# Altium footprint library SMD ceramic.PcbLib: 10 footprints
Each footprint in its own frame and in the unit in brackets; x right, y up, seen from the top. Pads: shape width x height; smd on the part's side, far side on the other; paste and mask are expansions set on the pad; w line width, h text height; cw(c..) or ccw(c..) is an arc to the next point about the centre after c.
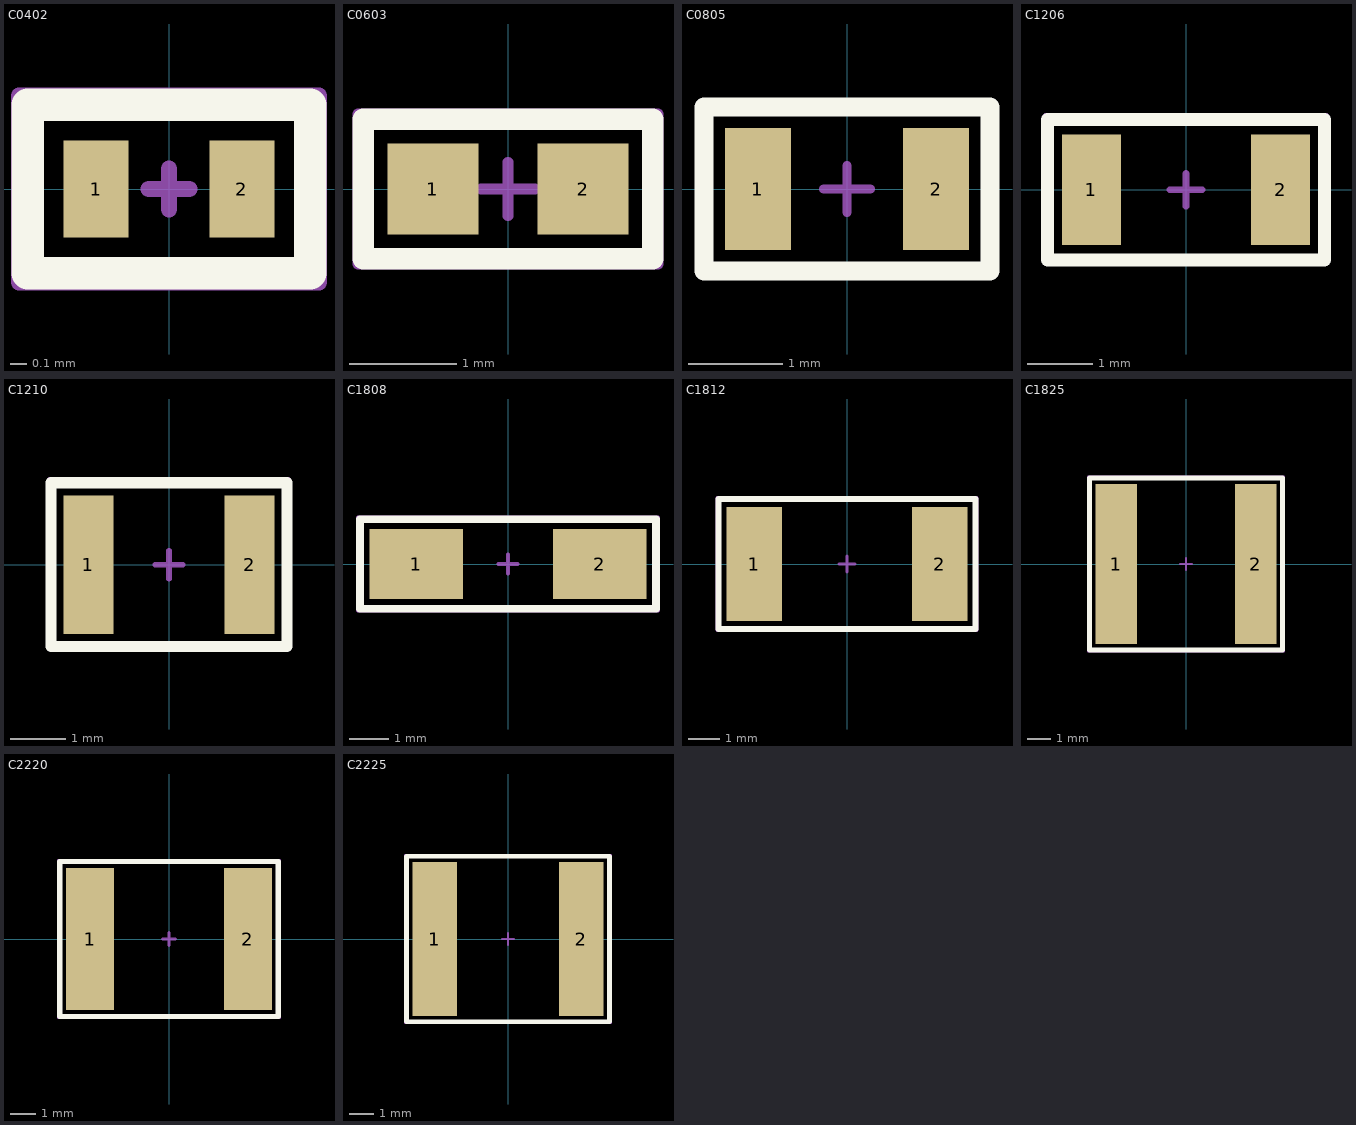
[diagram p0: the footprints below, top view; thin cyan lines are the x and y axes]

## C0402 [mm]
pads (2):
  rect 0.4x0.6 smd: 1(-0.45,0) 2(0.45,0)
Top Overlay:
  lines w0.2: -0.87,-0.52 -0.87,0.52 0.87,0.52 0.87,-0.52 -0.87,-0.52
Border:
  lines w0.1: -0.125,0 0.125,0 ; 0,-0.125 0,0.125 ; -0.925,-0.575 -0.925,0.575 0.925,0.575 0.925,-0.575 -0.925,-0.575
3D body "User Library-Capacitor 0402.STEP": height 0.49, standoff -0.01, extent -0.5,-0.25 0.5,0.25

## C0603 [mm]
pads (2):
  rect 0.85x0.85 smd: 1(-0.7,0) 2(0.7,0)
Top Overlay:
  lines w0.2: -1.35,-0.65 -1.35,0.65 1.35,0.65 1.35,-0.65 -1.35,-0.65
Border:
  lines w0.1: -0.25,0 0.25,0 ; 0,-0.25 0,0.25 ; -1.4,-0.7 1.4,-0.7 1.4,0.7 -1.4,0.7 -1.4,-0.7
3D body "User Library-SMD CAPACITOR.STEP": height 0.8, standoff 0, extent -0.8,-0.4 0.8,0.4

## C0805 [mm]
pads (2):
  rect 0.7x1.3 smd: 1(-0.95,0) 2(0.95,0)
Top Overlay:
  lines w0.2: -1.525,-0.875 -1.525,0.875 1.525,0.875 1.525,-0.875 -1.525,-0.875
Border:
  lines w0.1: -0.25,0 0.25,0 ; 0,-0.25 0,0.25 ; -1.55,-0.9 1.55,-0.9 1.55,0.9 -1.55,0.9 -1.55,-0.9
3D body "User Library-SMD CAPACITOR.STEP": height 0.6, standoff 0, extent -1,-0.625 1,0.625

## C1206 [mm]
pads (2):
  rect 0.9x1.7 smd: 1(-1.45,0) 2(1.45,0)
Top Overlay:
  lines w0.2: -2.125,-1.075 -2.125,1.075 2.125,1.075 2.125,-1.075 -2.125,-1.075
Border:
  lines w0.1: -0.25,0 0.25,0 ; 0,-0.25 0,0.25 ; -2.15,-1.1 2.15,-1.1 2.15,1.125 -2.15,1.125 -2.15,-1.1
3D body "User Library-SMD CAPACITOR.STEP": height 0.77, standoff -0.01, extent -1.6,-0.8 1.6,0.8

## C1210 [mm]
pads (2):
  rect 0.9x2.5 smd: 1(-1.45,0) 2(1.45,0)
Top Overlay:
  lines w0.2: -2.125,-1.475 2.125,-1.475 2.125,1.475 -2.125,1.475 -2.125,-1.475
Border:
  lines w0.1: -0.25,0 0.25,0 ; 0,-0.25 0,0.25 ; -2.15,-1.5 -2.15,1.525 2.15,1.525 2.15,-1.5 -2.15,-1.5
3D body "User Library-SMD CAPACITOR.STEP": height 0.77, standoff -0.01, extent -1.6,-1.25 1.6,1.25

## C1808 [mm]
pads (2):
  rect 2.4x1.8 smd: 1(-2.35,0) 2(2.35,0)
Top Overlay:
  lines w0.2: -3.8,-1.15 3.8,-1.15 3.8,1.15 -3.8,1.15 -3.8,-1.15
Border:
  lines w0.1: -0.25,0 0.25,0 ; 0,-0.25 0,0.25 ; -3.85,-1.2 -3.85,1.2 3.85,1.2 3.85,-1.2 -3.85,-1.2
3D body "User Library-SMD CAPACITOR.STEP": height 0.9, standoff 0, extent -2.25,-1 2.25,1

## C1812 [mm]
pads (2):
  rect 1.8x3.7 smd: 1(-3,0) 2(3,0)
Top Overlay:
  lines w0.2: -4.15,-2.1 4.15,-2.1 4.15,2.1 -4.15,2.1 -4.15,-2.1
Border:
  lines w0.1: -0.25,0 0.25,0 ; 0,-0.25 0,0.25 ; -4.2,-2.15 -4.2,2.15 4.2,2.15 4.2,-2.15 -4.2,-2.15
3D body "User Library-SMD CAPACITOR.STEP": height 1, standoff 0, extent -2.25,-1.6 2.25,1.6

## C1825 [mm]
pads (2):
  rect 1.8x6.9 smd: 1(-3,0) 2(3,0)
Top Overlay:
  lines w0.2: -4.15,-3.7 -4.15,3.7 4.15,3.7 4.15,-3.7 -4.15,-3.7
Border:
  lines w0.1: -0.25,0 0.25,0 ; 0,-0.25 0,0.25 ; -4.2,-3.75 4.2,-3.75 4.2,3.75 -4.2,3.75 -4.2,-3.75
3D body "User Library-SMD CAPACITOR.STEP": height 1.14, standoff -0.01, extent -2.25,-3.2 2.25,3.2

## C2220 [mm]
pads (2):
  rect 1.85x5.5 smd: 1(-3.05,0) 2(3.05,0)
Top Overlay:
  lines w0.2: -4.225,-3 -4.225,3 4.225,3 4.225,-3 -4.225,-3
Border:
  lines w0.1: -0.25,0 0.25,0 ; 0,-0.25 0,0.25 ; -4.275,-3.05 4.275,-3.05 4.275,3.05 -4.275,3.05 -4.275,-3.05
3D body "User Library-SMD CAPACITOR.STEP": height 1, standoff 0, extent -2.8,-2.5 2.8,2.5

## C2225 [mm]
pads (2):
  rect 1.85x6.4 smd: 1(-3.05,0) 2(3.05,0)
Top Overlay:
  lines w0.2: -4.225,-3.45 4.225,-3.45 4.225,3.45 -4.225,3.45 -4.225,-3.45
Border:
  lines w0.1: -0.25,0 0.25,0 ; 0,-0.25 0,0.25 ; -4.275,-3.5 -4.275,3.5 4.275,3.5 4.275,-3.5 -4.275,-3.5
3D body "User Library-SMD CAPACITOR.STEP": height 1, standoff 0, extent -2.8,-3.15 2.8,3.15